# EAGLE library part THS4551 (library THS4551)
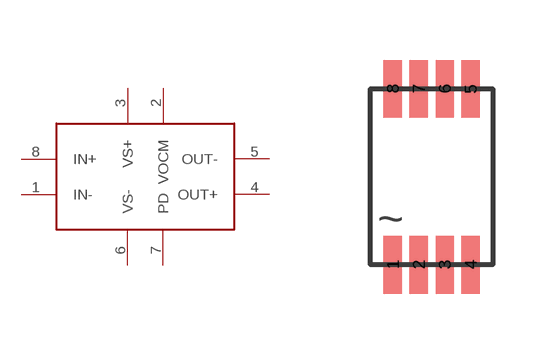
[diagram p0: symbol with the pads of VSSOP-8; footprint VSSOP-8]

Designator prefix -

## THS4551  [VSSOP-8]
1  IN-
2  VOCM
3  VS+
4  OUT+
5  OUT-
6  VS-
7  PD
8  IN+

## Footprint VSSOP-8 (pad centres in mm)
smd 0.45 x 1.45: 1 0,0; 2 0.65,0; 3 1.3,0; 4 1.95,0; 5 1.95,4.4; 6 1.3,4.4; 7 0.65,4.4; 8 0,4.4